# Altium schematic symbol library TL081CDR.SchLib: 1 symbol
Pins are listed as number, name and electrical type; pins without a type are passive.

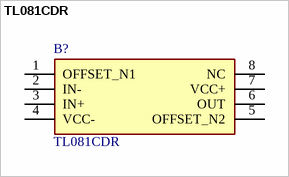
[diagram p0: symbol TL081CDR]

## TL081CDR
designator B?
TL081CDR, Operational Amplifier 3MHz, 8-Pin SOIC; Manufacturer_Name: Texas Instruments; Geometry.Height: 1.75mm; Mouser Part Number: 595-TL081CDR; Mouser Price/Stock: https://www.mouser.co.uk/ProductDetail/Texas-Instruments/TL081CDR?qs=odmYgEirbwwDMR5v%252BrfUTg%3D%3D; Manufacturer_Part_Number: TL081CDR; Datasheet Link: http://www.ti.com/lit/ds/symlink/tl081.pdf
footprint SOIC127P600X175-8N
pins: 1 OFFSET_N1, 2 IN-, 3 IN+, 4 VCC-, 5 OFFSET_N2, 6 OUT, 7 VCC+, 8 NC